# Altium footprint library Capacitors.PcbLib: 1 footprints
Each footprint in its own frame and in the unit in brackets; x right, y up, seen from the top. Pads: shape width x height; smd on the part's side, far side on the other; paste and mask are expansions set on the pad; w line width, h text height; cw(c..) or ccw(c..) is an arc to the next point about the centre after c.
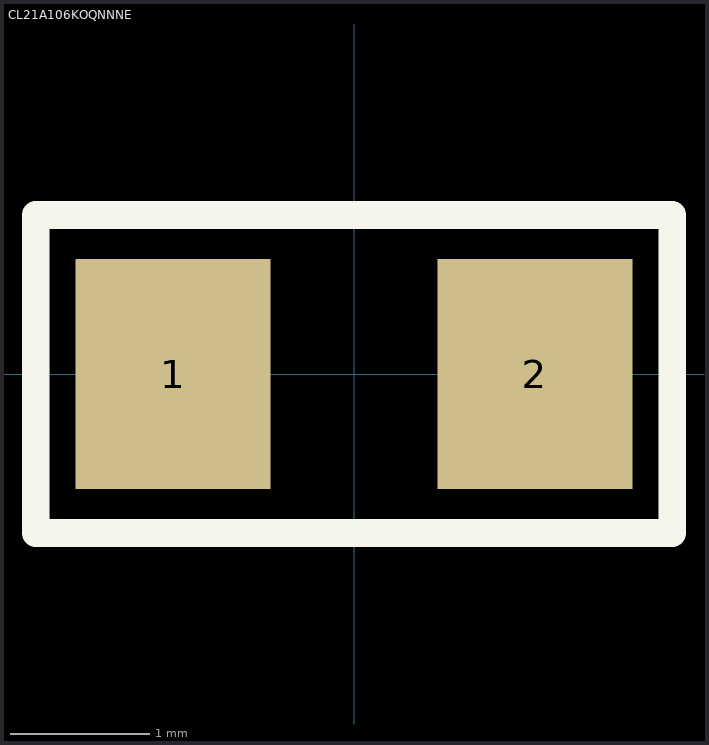
[diagram p0: the footprint, top view; thin cyan lines are the x and y axes]

## CL21A106KOQNNNE [mm] "CAP CER 10UF 16V X5R 0805"
pads (2):
  rect 1.4x1.65 smd mask+0.05: 1(-1.3,0) 2(1.3,0)
Top Overlay:
  lines w0.2: -2.286,-1.143 -2.286,1.143 2.286,1.143 2.286,-1.143 -2.286,-1.143
Mechanical 1:
  text ".Designator" at 0.1,0.323 h0.67
3D body "CAP_CL21_SAM.step": height 1.24, standoff -0.01, extent -1,-0.675 1,0.675